# Altium footprint library SparkFun-Passives.PCBLIB: 32 footprints (part 2 of 2)
Each footprint in its own frame and in the unit in brackets; x right, y up, seen from the top. Pads: shape width x height; smd on the part's side, far side on the other; paste and mask are expansions set on the pad; w line width, h text height; cw(c..) or ccw(c..) is an arc to the next point about the centre after c.
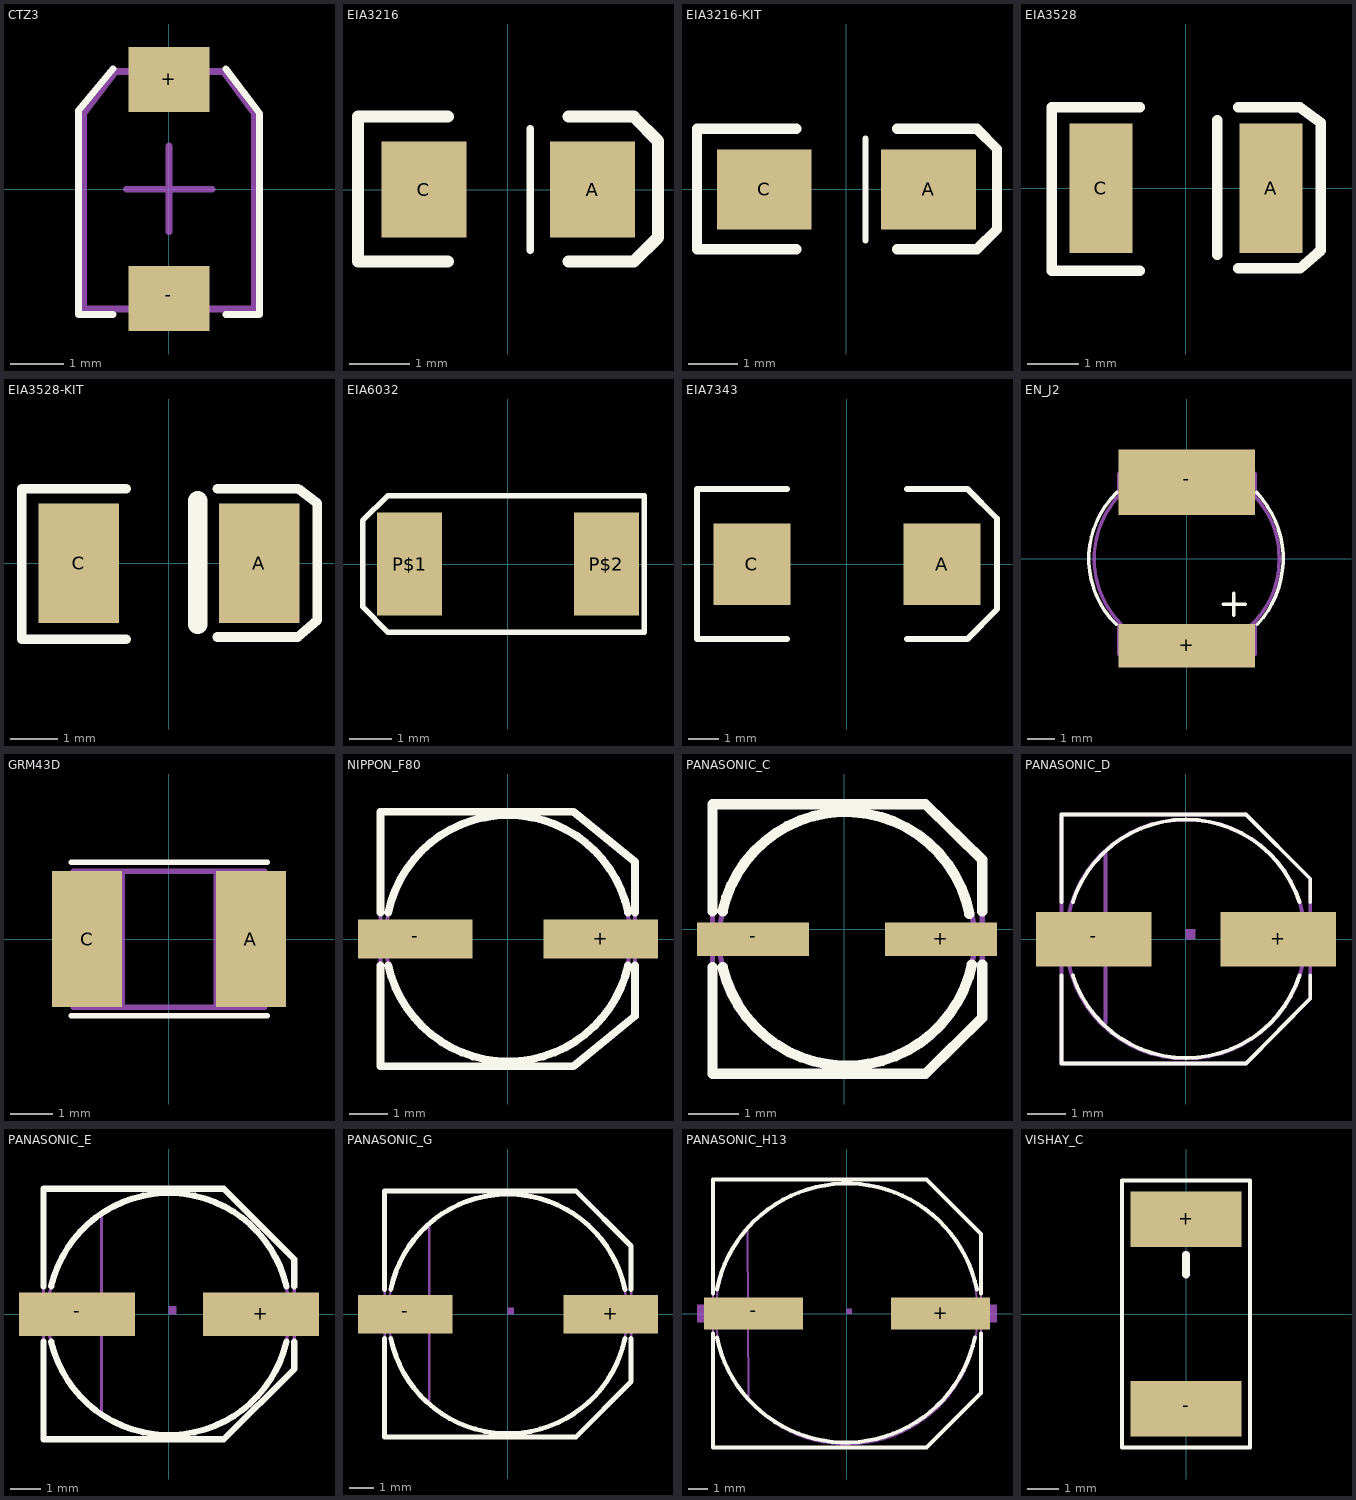
[diagram p1: the footprints below, top view; thin cyan lines are the x and y axes]

## CTZ3 [mil]
pads (2):
  rect 60x48 smd: +(0,81) -(0,-80.71)
Top Overlay:
  lines w5: -41.34,-92.52 -66.93,-92.52 -66.93,58 -41.34,89 ; 42,-92.52 67,-92.52 67,56 42,89
Mechanical 16:
  lines w5: -31.5,0 32,0 ; -19.68,0 20,0 ; 0,-31.5 0,32 ; -62.99,-88.58 -62.99,56 -39.37,87 40,87 63,56 63,-88.58 -62.99,-88.58

## EIA3216 [mil]
pads (2):
  rect 56x63 smd: A(56,0) C(-55.12,0)
Top Overlay:
  lines w5: 15,-40 15,40
  lines w8: -39.37,-47.24 -98.43,-47.24 -98.43,48 -39.37,48 ; 40,-47.24 83,-47.24 99,-31.5 99,32 83,48 40,48

## EIA3216-KIT [mil]
pads (2):
  rect 75x63 smd: A(65,0) C(-64.96,0)
Top Overlay:
  lines w5: 15,-40 15,40
  lines w8: -39.37,-47.24 -118.11,-47.24 -118.11,48 -39.37,48 ; 40,-47.24 103,-47.24 119,-31.5 119,32 103,48 40,48

## EIA3528 [mil]
pads (2):
  rect 48x99 smd: A(65,0) C(-64.96,0)
Top Overlay:
  lines w8: -35.43,-62.99 -102.36,-62.99 -102.36,62 -35.43,62 ; 24,-50.63 24,52 ; 40,-61.02 87,-61.02 103,-47.24 103,50 87,62 40,62

## EIA3528-KIT [mil]
pads (2):
  rect 67x99 smd: A(75,0) C(-74.8,0)
Top Overlay:
  lines w8: -35.43,-62.99 -122.05,-62.99 -122.05,62 -35.43,62 ; 40,-61.02 107,-61.02 123,-47.24 123,50 107,62 40,62
  lines w16: 24,-50.63 24,52

## EIA6032 [mil]
pads (2):
  rect 60x95 smd: P$1(-90.55,0) P$2(91,0)
Top Overlay:
  lines w5: -133.86,-39.37 -133.86,40 -110.24,63 126,63 126,-62.99 -110.24,-62.99 -133.86,-39.37

## EIA7343 [mil]
pads (2):
  rect 101x107 smd: A(125,0) C(-124.8,0)
Top Overlay:
  lines w8: -78.74,-98.43 -196.85,-98.43 -196.85,99 -78.74,99 ; 79,-98.43 158,-98.43 197,-59.06 197,60 158,99 79,99

## EN_J2 [mil]
pads (2):
  rect 197x63 smd: +(0,-125.98)
  rect 197x95 smd: -(0,111)
Top Overlay:
  lines w5: -102,-95 cw(c-8,0.01) -101,96 ; 53,-66 85,-66 ; 68,-82 68,-50 ; 101,96 cw(c0.5,-0.03) 102,-95
Mechanical 16:
  circle w5: c0,0 r134
  lines w5: -98.43,-90.55 -98.43,-137.8 99,-137.8 99,-90.55 ; -98.43,91 -98.43,123 -82.68,138 83,138 99,123 99,91

## GRM43D [mil]
pads (2):
  rect 65x126 smd: A(76,0) C(-75.87,0)
Top Overlay:
  lines w5: -90.55,-70.87 91,-70.87 ; -90.55,71 91,71
Mechanical 16:
  rectangle: -86.61,-62.99 -43.31,63
  rectangle: 44,-62.99 87,63
  lines w5: -43.31,-62.99 -88.58,-62.99 -88.58,63 -43.31,63 ; -43.31,-62.99 44,-62.99 ; -43.31,-62.99 -43.31,63 ; -43.31,63 44,63 ; 44,-62.99 89,-62.99 89,63 44,63 ; 44,-62.99 44,63

## NIPPON_F80 [mil]
pads (2):
  rect 117x40 smd: +(95,0) -(-94.49,0)
Top Overlay:
  lines w8: -129.92,-26.97 -129.92,-129.92 67,-129.92 130,-78.74 130,-26.97 ; -129.92,27 -129.92,130 67,130 130,79 130,27 ; -122.05,-26.97 ccw(c0.48,0.48) 123,-26.97 ; -122.05,27 cw(c0.48,1.52) 123,27
Mechanical 16:
  circle w4: c0,0 r125
  lines w4: -129.92,-129.92 67,-129.92 130,-78.74 130,79 67,130 -129.92,130 -129.92,-129.92

## PANASONIC_C [mil]
pads (2):
  rect 87x26 smd: +(75,-7.87) -(-70.87,-7.87)
Top Overlay:
  lines w8: -102.36,-29.53 -102.36,-112.2 63,-112.2 107,-68.9 107,-27.56 ; -102.36,14 -102.36,97 63,97 107,54 107,14 ; -94.49,-29.53 ccw(c2.03,-6.83) 99,-27.56 ; -94.49,14 cw(c1.05,-6.74) 97,12
Mechanical 16:
  circle w4: c2,-7.87 r99
  lines w4: -102.36,-112.2 63,-112.2 107,-68.9 107,54 63,97 -102.36,97 -102.36,-112.2

## PANASONIC_D [mil]
pads (2):
  rect 119x56 smd: +(95,0) -(-94.49,0)
Top Overlay:
  lines w4: -127.95,-37.4 -127.95,-127.95 62,-127.95 128,-61.02 128,-37.4 ; -127.95,38 -127.95,128 62,128 128,62 128,38 ; -116.14,-37.4 ccw(c0.43,0.14) 117,-37.4 ; -116.14,38 cw(c0.43,0.46) 117,38
Mechanical 16:
  circle w4: c0,0 r123
  rectangle: -143.7,-13.78 -120.08,14
  rectangle: 121,-13.78 144,14
  region: 0,0 10,0 10,10 0,10
  lines w4: -82.68,-86.61 -82.68,89 ; -127.95,-127.95 62,-127.95 128,-61.02 128,62 62,128 -127.95,128 -127.95,-127.95

## PANASONIC_E [mil]
pads (2):
  rect 150x56 smd: +(119,0) -(-118.11,0)
Top Overlay:
  lines w8: -161.42,-35.43 -161.42,-161.42 71,-161.42 162,-70.87 162,-35.43 ; -161.42,36 -161.42,162 71,162 162,71 162,36 ; -151.57,-35.43 ccw(c0.21,0.05) 152,-35.43 ; -151.57,36 cw(c0.21,0.52) 152,36
Mechanical 16:
  circle w4: c0,0 r156
  rectangle: -177.17,-13.78 -149.61,14
  rectangle: 150,-13.78 178,14
  region: 0,0 10,0 10,10 0,10
  lines w4: -86.61,-127.95 -86.61,128 ; -161.42,-161.42 71,-161.42 162,-70.87 162,71 71,162 -161.42,162 -161.42,-161.42

## PANASONIC_G [mil]
pads (2):
  rect 154x63 smd: +(168,0) -(-167.32,0)
Top Overlay:
  lines w8: -200.79,-39.37 -200.79,-200.79 111,-200.79 201,-110.24 201,-39.37 ; -200.79,40 -200.79,201 111,201 201,111 201,40 ; -190.94,-39.37 ccw(c0.03,0.01) 191,-39.37 ; -190.94,40 cw(c0.03,0.62) 191,40
Mechanical 16:
  circle w4: c0,0 r195
  rectangle: -230.31,-17.72 -192.91,18
  rectangle: 193,-17.72 231,18
  region: 0,0 10,0 10,10 0,10
  lines w4: -127.95,-143.7 -127.95,146 ; -200.79,-200.79 111,-200.79 201,-110.24 201,111 111,201 -200.79,201 -200.79,-200.79

## PANASONIC_H13 [mil]
pads (2):
  rect 197x63 smd: +(186,0) -(-185.04,0)
Top Overlay:
  lines w8: -265.75,-39.37 -265.75,-265.75 158,-265.75 266,-157.48 266,-39.37 ; -265.75,40 -265.75,266 158,266 266,158 266,40 ; -257.87,-47.24 ccw(c-1.94,5.54) 254,-47.24 ; -257.87,48 cw(c0.06,-5.19) 258,48
Mechanical 16:
  circle w4: c0,0 r260
  rectangle: -297.24,-17.72 -259.84,18
  rectangle: 260,-17.72 298,18
  region: 0,0 10,0 10,10 0,10
  lines w4: -196.85,168 -194.88,-171.26 ; -265.75,-265.75 158,-265.75 266,-157.48 266,158 158,266 -265.75,266 -265.75,-265.75

## VISHAY_C [mil]
pads (2):
  rect 140x70 smd: +(0,120) -(0,-120)
Top Overlay:
  lines w5: -81,-169 -81,169 81,169 81,-169 -81,-169
  lines w10: 0,50 0,75